# EAGLE library part AVR_ISP_6 (library mike)
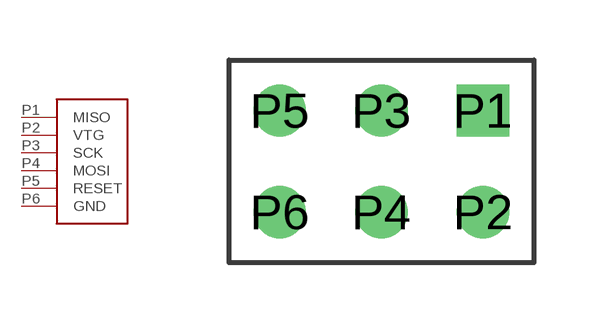
[diagram p13: symbol with the pads of AVR_ISP_6; footprint AVR_ISP_6]

Designator prefix ISP

## AVR_ISP_6  [AVR_ISP_6]
P1  MISO  in
P2  VTG  pwr
P3  SCK  out
P4  MOSI  out
P5  RESET  out
P6  GND  pwr

## Footprint AVR_ISP_6 (pad centres in mm)
drill 0.8 square: P1 2.54,1.27
drill 0.8 round: P2 2.54,-1.27; P3 0,1.27; P4 0,-1.27; P5 -2.54,1.27; P6 -2.54,-1.27